# EAGLE library part IMU_497-14946-1-ND (library quadparts_jay)
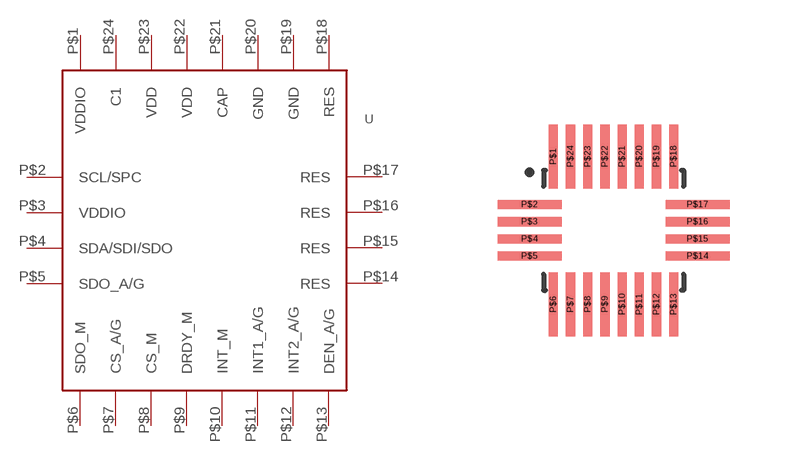
[diagram p0: symbol with the pads of IMU_497-14946-1-ND; footprint IMU_497-14946-1-ND]

Designator prefix U

## IMU_497-14946-1-ND (CREATOR: Jay Ives; DIST: Digikey; DISTPN: 497-14946-1-ND; MFR: STMicroelectronics; MPN: LSM9DS1TR; REVIEWER: Group3)  [IMU_497-14946-1-ND]
P$1  VDDIO
P$2  SCL/SPC
P$3  VDDIO
P$4  SDA/SDI/SDO
P$5  SDO_A/G
P$6  SDO_M
P$7  CS_A/G
P$8  CS_M
P$9  DRDY_M
P$10  INT_M
P$11  INT1_A/G
P$12  INT2_A/G
P$13  DEN_A/G
P$14  RES
P$15  RES
P$16  RES
P$17  RES
P$18  RES
P$19  GND
P$20  GND
P$21  CAP
P$22  VDD
P$23  VDD
P$24  C1

## Footprint IMU_497-14946-1-ND (pad centres in mm)
smd 0.23 x 1.6: P$1 -1.505,1.85; P$6 -1.505,-1.85; P$7 -1.075,-1.85; P$8 -0.645,-1.85; P$9 -0.215,-1.85; P$10 0.215,-1.85; P$11 0.645,-1.85; P$12 1.075,-1.85; P$13 1.505,-1.85; P$18 1.505,1.85; P$19 1.075,1.85; P$20 0.645,1.85; P$21 0.215,1.85; P$22 -0.215,1.85; P$23 -0.645,1.85; P$24 -1.075,1.85
smd 1.6 x 0.23: P$2 -2.1,0.645; P$3 -2.1,0.215; P$4 -2.1,-0.215; P$5 -2.1,-0.645; P$14 2.1,-0.645; P$15 2.1,-0.215; P$16 2.1,0.215; P$17 2.1,0.645